# Altium footprint library CAP-SMD-0805.PcbLib: 1 footprints
Each footprint in its own frame and in the unit in brackets; x right, y up, seen from the top. Pads: shape width x height; smd on the part's side, far side on the other; paste and mask are expansions set on the pad; w line width, h text height; cw(c..) or ccw(c..) is an arc to the next point about the centre after c.
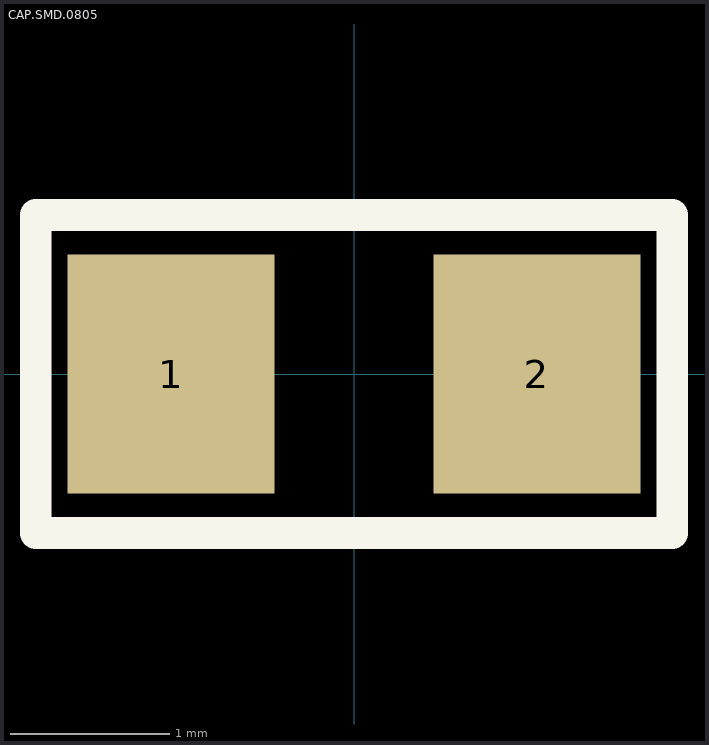
[diagram p0: the footprint, top view; thin cyan lines are the x and y axes]

## CAP.SMD.0805 [mm] "COG 10% CER.MULT. SMD 0805"
pads (2):
  rect 1.3x1.5 smd: 1(-1.15,0) 2(1.15,0)
Top Overlay:
  lines w0.2: -2,-1 2,-1 2,1 -2,1 -2,-1
3D body "CAP-SMD-0805.stp": height 0.88, standoff 0, extent -1.1,-0.688 1.1,0.762